# Altium integrated library SJ2-25515B-SMT-TR.IntLib: 1 symbol
Pins are listed as number, name and electrical type; pins without a type are passive.

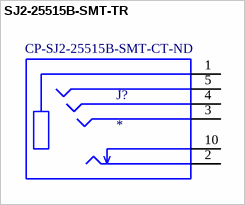
[diagram p0: symbol SJ2-25515B-SMT-TR]

## SJ2-25515B-SMT-TR
designator J?  Supplier Part Number 1: CP-SJ2-25515B-SMT-CT-ND
5 conductor, 2.5 mm, SMT Audio Jack w/ Tip Switch; MF: CUI; MP: SJ2-25515B-SMT-TR; Contact: 5(Excludes TIP Switch); Specification: 5-Contact 2.5mm; Package: None; Price: None; Value: *; Availability: Unavailable; Supplier 1: Digi-Key; Datasheet: https://www.cuidevices.com/product/resource/sj2-2551x-smt.pdf
footprint CUI_SJ2-25515B-SMT-TR
pins: 1 OUTER_RING, 2 TIP, 3 RING1, 4 RING2, 5 SLEEVE, 10 TIP_SWITCH